# Altium schematic symbol library SCH - AMP AUDIO - ANALOG SSM2019BN.SchLib: 1 symbol
Pins are listed as number, name and electrical type; pins without a type are passive.

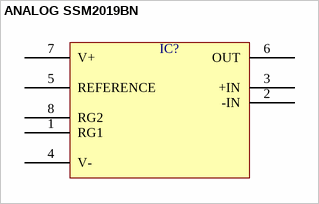
[diagram p0: symbol ANALOG SSM2019BN]

## ANALOG SSM2019BN
designator IC?  (value not drawn)
pins: 1 RG1, 2 -IN, 3 +IN, 4 V-, 5 REFERENCE, 6 OUT, 7 V+, 8 RG2